# EAGLE library part RN42 (library RN42)
RN42 Bluetooth Module Product data sheets and resources: http://www.rovingnetworks.com/products/RN42 Purchase from SparkFun: https://www.sparkfun.com/products/10253 Features Bluetooth Versions :2.1 + EDR, 2.0, 1.2, 1.1 Data rate: 300Kbps: HCI mode: 1.5Mbps sustained, 3Mbps burst Frequency Band: 2.412 - 2.484 GHz Modulation: FHSS/GFSK modulation, 79 channels at 1MHz intervals Profiles: SPP, DUN, HID, iAP, HCI, RFCOM, L2CAP, SDP Supply voltage: 3.3V ± 10% Output power: +4dBm Interface UART, USB, Bluetooth Size 0.52" x 1" x 0.07" (13.4mm x 25.8mm x 2mm)
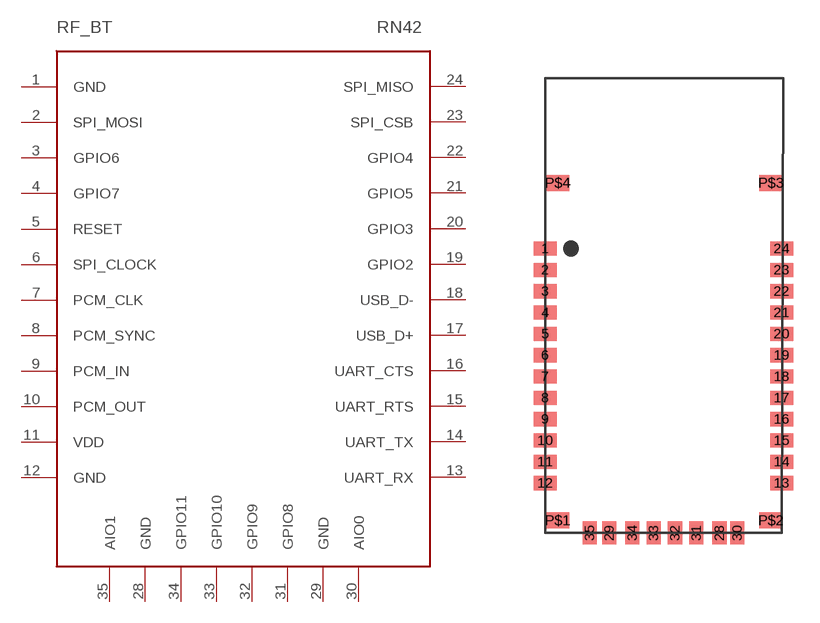
[diagram p0: symbol with the pads of RN42_CUST_PAK; footprint RN42_CUST_PAK]

Designator prefix RF_BT

## RN42BLUE  [RN42_CUST_PAK]
1  GND  pwr
2  SPI_MOSI
3  GPIO6
4  GPIO7
5  RESET
6  SPI_CLOCK  in
7  PCM_CLK
8  PCM_SYNC
9  PCM_IN
10  PCM_OUT
11  VDD  pwr
12  GND  pwr
13  UART_RX
14  UART_TX
15  UART_RTS
16  UART_CTS
17  USB_D+
18  USB_D-
19  GPIO2
20  GPIO3
21  GPIO5
22  GPIO4
23  SPI_CSB
24  SPI_MISO
28  GND  pwr
29  GND  pwr
30  AIO0
31  GPIO8
32  GPIO9
33  GPIO10
34  GPIO11
35  AIO1

## Footprint RN42_CUST_PAK (pad centres in mm)
RN42 Bluetooth Module RN42 module comes on a PCB. This is the package for the PCB which has solder pads and antenna.
smd 1.3 x 0.8: 1 0,16; 2 0,14.8; 3 0,13.6; 4 0,12.4; 5 0,11.2; 6 0,10; 7 0,8.8; 8 0,7.6; 9 0,6.4; 10 0,5.2; 11 0,4; 12 0,2.8; 13 13.3,2.8; 14 13.3,4; 15 13.3,5.2; 16 13.3,6.4; 17 13.3,7.6; 18 13.3,8.8; 19 13.3,10; 20 13.3,11.2; 21 13.3,12.4; 22 13.3,13.6; 23 13.3,14.8; 24 13.3,16
smd 0.8 x 1.3: 28 9.8,0; 29 3.6,0; 30 10.8,0; 31 8.5,0; 32 7.3,0; 33 6.1,0; 34 4.9,0; 35 2.5,0
smd 1.3 x 0.9: P$1 0.7,0.7; P$2 12.7,0.7; P$3 12.7,19.7; P$4 0.7,19.7